# Altium schematic symbol library JMP1x2.Schlib: 1 symbol
Pins are listed as number, name and electrical type; pins without a type are passive.

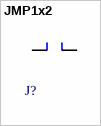
[diagram p0: symbol JMP1x2]

## JMP1x2
designator J?  (value not drawn)
Jumper, 1x2
pins: 1, 2